# Altium footprint library 电子竞赛.PcbLib: 1 footprints
Each footprint in its own frame and in the unit in brackets; x right, y up, seen from the top. Pads: shape width x height; smd on the part's side, far side on the other; paste and mask are expansions set on the pad; w line width, h text height; cw(c..) or ccw(c..) is an arc to the next point about the centre after c.
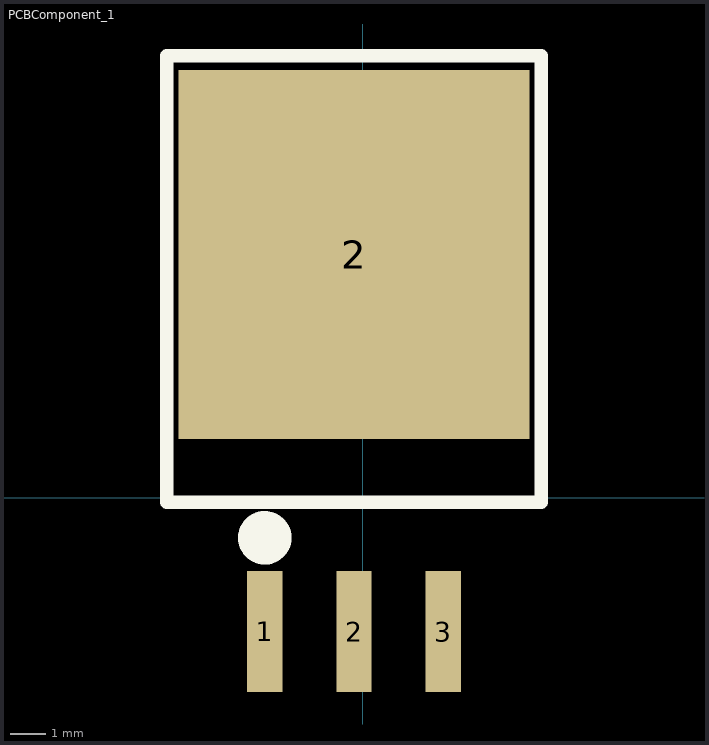
[diagram p0: the footprint, top view; thin cyan lines are the x and y axes]

## PCBComponent_1 [mm]
pads (4):
  rect 1x3.45 smd: 1(-2.794,-3.81) 2(-0.254,-3.81) 3(2.286,-3.81)
  rect 10x10.5 smd: 2(-0.254,6.915)
Top Overlay:
  circle w0.762: c-2.794,-1.141 r0.381
  lines w0.381: -5.588,-0.125 5.08,-0.125 5.08,2.161 5.08,12.575 -5.588,12.575 -5.588,1.907 -5.588,-0.125
3D body "TO263-3.STEP": height 4.7, standoff 0, extent -5.301,-3.275 4.699,11.153